# Altium schematic symbol library CeleronLib.SchLib: 64 symbols (part 1 of 2)
Pins are listed as number, name and electrical type; pins without a type are passive.

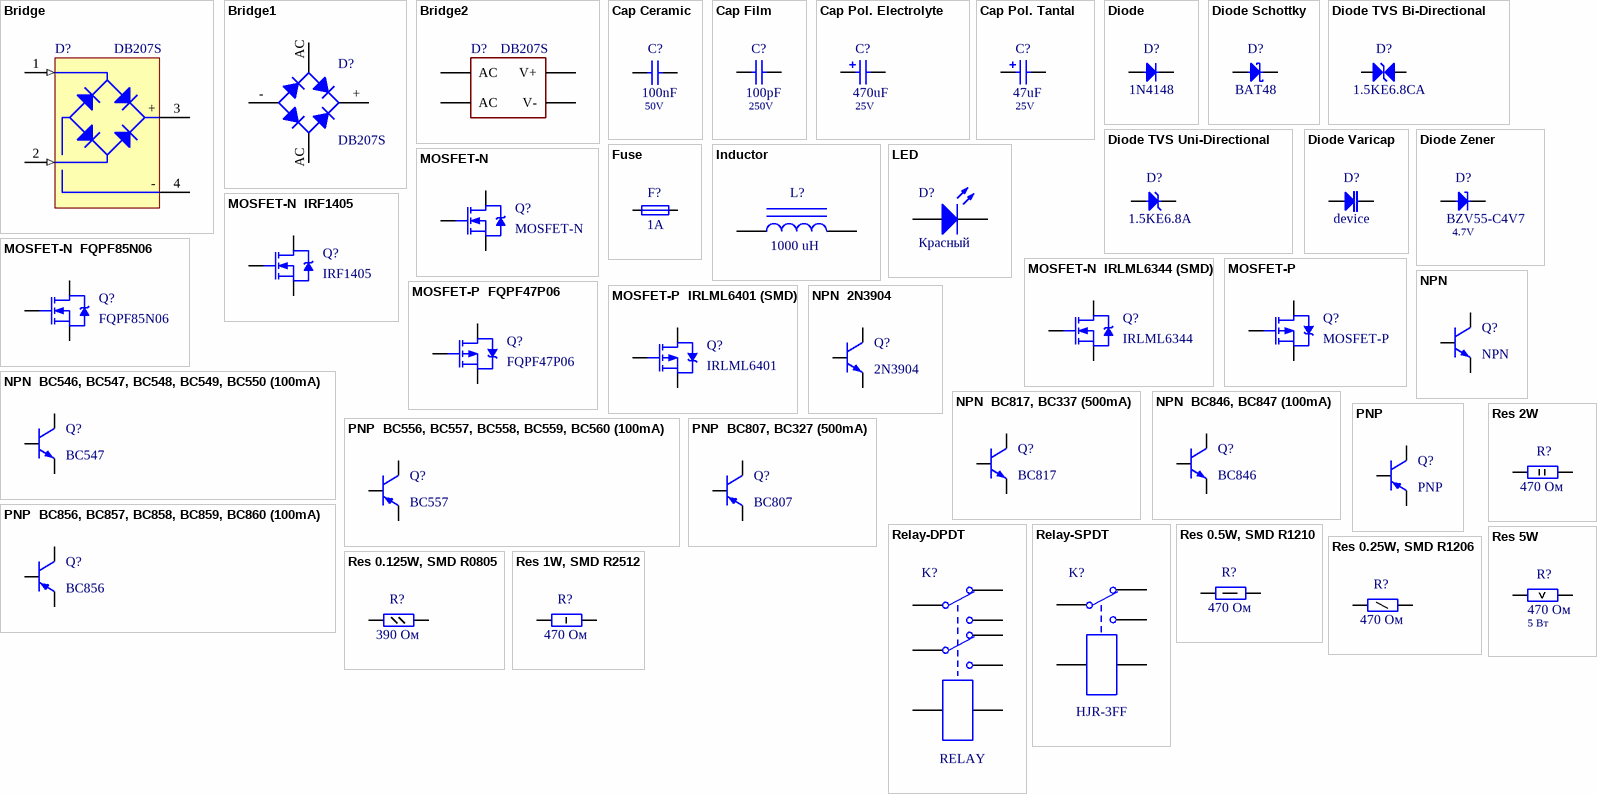
[diagram p0: symbols Bridge to Res 5W]

## Bridge
designator D?, comment Device: DB207S  (hidden comment: Диодный мост DB207S (2А, 1000V))
Bridge Rectifier 1+ 2AC 3- 4AC; ComponentLink2Description: Datasheet; ComponentLink1Description: Сайт производителя; Family: Диодный мост; Package: DIP4 (шаг 5.2мм); Current: 2А; Voltage: 1000V; ComponentLink3Description: Где купить?
footprint BRIDGE D-37 (SIP; 4 Leads; Body 15 x 17.5 x 6.8 mm (typ); Pitch 5.1 mm); pin to pad 1>2 2>4 3>1 4>3
footprint BRIDGE D-38 (Bridge Rectifier; 4 Terminals; Body 9.4 x 9.4 mm (typ); Pitch 5.08 mm); pin to pad 1>2 2>4 3>1 4>3
footprint BRIDGE D-44 (SIP; 4 Leads; Body 15 x 17.5 x 6.8 mm (typ); Pitch 3.8 mm); pin to pad 1>2 2>3 3>1
footprint BRIDGE D-46_3A (Bridge Rectifier; 4 Terminals; Body 16.8 x 16.8 mm (typ); Pitch 10.67 mm); pin to pad 1>2 2>4 3>1 4>3
footprint BRIDGE D-46_6A (Bridge Rectifier; 4 Terminals; Body 16.8 x 16.8 mm (typ); Pitch 10.67 mm); pin to pad 1>2 2>4 3>1 4>3
footprint BRIDGE DB-1 (Диодный мост, Diode Bridge 1A, 1000V)
footprint BRIDGE DB-1/S (Диодный мост, Diode Bridge 1A, 1000V)
footprint BRIDGE DB-1S (Диодный мост, Diode Bridge 1A, 1000V, SMD)
footprint BRIDGE KBL (KBL10  6,5mm x 19,5mm,  4A, 1000V)
footprint BRIDGE KBPC (KBPC3510W  28,4mm x 28,4mm)
simulation model BRIDGE (Spice Subcircuit)
pins: 1 AC (in), 2 AC (in), 3 + (power), 4 - (power)

## Bridge1
designator D?, comment Device: DB207S  (hidden comment: Диодный мост DB207S (2А, 1000V))
Full Wave Diode Bridge; Package: D-38; ComponentLink2Description: Datasheet; ComponentLink1Description: Сайт производителя; Family: Диодный мост; Current: 2А; Voltage: 1000V; ComponentLink3Description: Где купить?
simulation model BRIDGE (Spice Subcircuit)
footprint BRIDGE D-37 (SIP; 4 Leads; Body 15 x 17.5 x 6.8 mm (typ); Pitch 5.1 mm); pin to pad +>1 ->3 AC>2
footprint BRIDGE D-38 (Bridge Rectifier; 4 Terminals; Body 9.4 x 9.4 mm (typ); Pitch 5.08 mm); pin to pad +>1 ->3 AC>2
footprint BRIDGE D-44 (SIP; 4 Leads; Body 15 x 17.5 x 6.8 mm (typ); Pitch 3.8 mm); pin to pad +>1 AC>2
footprint BRIDGE D-46_3A (Bridge Rectifier; 4 Terminals; Body 16.8 x 16.8 mm (typ); Pitch 10.67 mm); pin to pad +>1 ->3 AC>2
footprint BRIDGE D-46_6A (Bridge Rectifier; 4 Terminals; Body 16.8 x 16.8 mm (typ); Pitch 10.67 mm); pin to pad +>1 ->3 AC>2
footprint BRIDGE DB-1 (Диодный мост, Diode Bridge 1A, 1000V)
footprint BRIDGE DB-1/S (Диодный мост, Diode Bridge 1A, 1000V)
footprint BRIDGE DB-1S (Диодный мост, Diode Bridge 1A, 1000V, SMD)
footprint BRIDGE KBL (KBL10  6,5mm x 19,5mm,  4A, 1000V)
footprint BRIDGE KBPC (KBPC3510W  28,4mm x 28,4mm)
pins: + 3, - 4, AC 1, AC 2

## Bridge2
designator D?, comment Device: DB207S  (hidden comment: Диодный мост DB207S (2А, 1000V))
Diode Bridge; Package: D-46_6A; ComponentLink2Description: Datasheet; ComponentLink1Description: Сайт производителя; Family: Диодный мост; Current: 2А; Voltage: 1000V; ComponentLink3Description: Где купить?
simulation model BRIDGE (Spice Subcircuit)
footprint BRIDGE D-37 (SIP; 4 Leads; Body 15 x 17.5 x 6.8 mm (typ); Pitch 5.1 mm); pin to pad 1>2 2>4 3>1 4>3
footprint BRIDGE D-38 (Bridge Rectifier; 4 Terminals; Body 9.4 x 9.4 mm (typ); Pitch 5.08 mm); pin to pad 1>2 2>4 3>1 4>3
footprint BRIDGE D-44 (SIP; 4 Leads; Body 15 x 17.5 x 6.8 mm (typ); Pitch 3.8 mm); pin to pad 1>2 2>3 3>1
footprint BRIDGE D-46_3A (Bridge Rectifier; 4 Terminals; Body 16.8 x 16.8 mm (typ); Pitch 10.67 mm); pin to pad 1>2 2>4 3>1 4>3
footprint BRIDGE D-46_6A (Bridge Rectifier; 4 Terminals; Body 16.8 x 16.8 mm (typ); Pitch 10.67 mm); pin to pad 1>2 2>4 3>1 4>3
footprint BRIDGE DB-1 (Диодный мост, Diode Bridge 1A, 1000V)
footprint BRIDGE DB-1/S (Диодный мост, Diode Bridge 1A, 1000V)
footprint BRIDGE DB-1S (Диодный мост, Diode Bridge 1A, 1000V, SMD)
footprint BRIDGE KBL (KBL10  6,5mm x 19,5mm,  4A, 1000V)
footprint BRIDGE KBPC (KBPC3510W  28,4mm x 28,4mm)
pins: 1 AC, 2 AC, 3 V+, 4 V-

## Cap Ceramic
designator C?, comment value 100nF  Voltage: 50V  (hidden comment: Конденсатор керамический  100nF  50V)
Capacitor (керамический); Tolerance: ±10%; Package: C1206; ComponentLink2Description: Datasheet; ComponentLink1Description: Сайт производителя; Family: Конденсатор керамический; ComponentLink3Description: Где купить?
simulation model CAP (Semiconductor Capacitor)
signal-integrity model Cap Semi
footprint Cap SMD C0805 (Chip Capacitor; Body 2.0 x 1.2 mm (LxW typ))
footprint Cap SMD C0805 - wa (Chip Capacitor; Body 2.0 x 1.2 mm (LxW typ))
footprint Cap SMD C1206 (Chip Capacitor; Body 3.2 x 1.6 mm (LxW typ))
footprint Cap SMD C1206 - wa (Chip Capacitor; Body 3.2 x 1.6 mm (LxW typ))
footprint Cap CC4 P=5mm (Конденсатор керамический многослойный низковольтный (50V) выводной, типа CC4/CT4...)
footprint Cap SMD C1210_M (Chip Capacitor, Body 3.2x2.5mm, IPC Low Density)
pins: 1, 2

## Cap Film
designator C?, comment value 100pF  Voltage: 250V  (hidden comment: Конденсатор плёночный  100pF  250V)
Capacitor (плёночный); Tolerance: ±10%; ComponentLink2Description: Datasheet; ComponentLink1Description: Сайт производителя; Family: Конденсатор плёночный; ComponentLink3Description: Где купить?
simulation model CAP (Semiconductor Capacitor)
signal-integrity model Cap Semi
footprint Cap X2 P=10mm (FCAP 0.01u/275VAC PP X2 L = 13 mm, S = 5 mm, H = 11 mm P = 10 mm, d = 0.6 mm)
footprint Cap CBB21 P=10mm (Конденсатор плёночный, типа CBB21...)
footprint Cap CBB21 P=15mm (Конденсатор плёночный, типа CBB21...)
footprint Cap CBB21 P=20mm (Конденсатор плёночный, типа CBB21...)
footprint Cap CBB21 P=22.5mm (Конденсатор плёночный, типа CBB21...)
footprint Cap CBB21 P=30mm (Конденсатор плёночный, типа CBB21...)
footprint Cap CBB21 P=27.5mm (Конденсатор плёночный, типа CBB21...)
pins: 1, 2

## Cap Pol. Electrolyte
designator C?, comment value 470uF  Voltage: 25V  (hidden comment: Конденсатор электролитический  470uF  25V)
Polarized Capacitor (электролитический); Tolerance: ±10%; Package: RB7.6-15 (Radial); ComponentLink2Description: Datasheet; ComponentLink1Description: Сайт производителя; Family: Конденсатор электролитический; ComponentLink3Description: Где купить?
simulation model CAP (Capacitor)
signal-integrity model Cap Pol
footprint Cap El 5x11 (Между выводами 2 мм, d =0.5)
footprint Cap El 6.3x11 (Между выводами 2.5 мм, d =0.5)
footprint Cap El 8x12 (Между выводами 3.5 мм, d =0.6)
footprint Cap El 10x21 (Между выводами 5 мм, d =0.6)
footprint Cap El 10.2x17.5 (D=10.2 d=0.6 S=5.0 h=17.5)
footprint Cap El 10.2x17.5 - Horizont (D=10.2 d=0.6 S=5.0 h=11)
footprint Cap El 13x21 (Между выводами 5 мм, d =0.6)
footprint Cap El 16x26 (Между выводами 7.5 мм, d =0.8)
footprint Cap El 18x31 (Между выводами 7.5 мм, d =0.8)
footprint Cap El 20x42 (Между выводами 10.5 мм, d =0.8)
footprint Cap El 22x42 (Между выводами 10.5 мм, d =0.8)
footprint Cap El 25x50 (Между выводами 12.5 мм, d =1.0)
footprint Cap SMD El 1030X1020N (Capacitor, Aluminium Electrolytric, 10.3mm L X 10.3mm W X 10.2mm H, IPC Medium Density)
footprint Cap SMD El 530X540N (Capacitor, Aluminium Electrolytric, 5.3mm L X 5.3mm W X 5.4mm H, IPC Medium Density)
footprint Cap SMD El 430X540N (Capacitor, Aluminium Electrolytric, 4.3mm L X 4.3mm W X 5.4mm H, IPC Medium Density)
footprint Cap SMD El 660X540N (Capacitor, Aluminium Electrolytric, 6.6mm L X 6.6mm W X 5.4mm H, IPC Medium Density)
footprint Cap SMD El 830X620N (Capacitor, Aluminium Electrolytric, 8.3mm L X 8.3mm W X 6.2mm H, IPC Medium Density)
footprint Cap SMD El 830X1020N (Capacitor, Aluminium Electrolytric, 8.3mm L X 8.3mm W X 10.2mm H, IPC Medium Density)
pins: 1, 2
1 alternate drawing of the same symbol

## Cap Pol. Tantal
designator C?, comment value 47uF  Voltage: 25V  (hidden comment: Конденсатор танталовый  47uF  25V)
Polarized Capacitor (танталовый); Tolerance: ±10%; Package: Type D (SMD); ComponentLink2Description: Datasheet; ComponentLink1Description: Сайт производителя; Family: Конденсатор танталовый; ComponentLink3Description: Где купить?
simulation model CAP (Capacitor)
signal-integrity model Cap Pol
footprint Cap Tantal 3216 - Type A (Capacitor, SM Tantalum; Body 3.2 x 1.6 mm (LxW typ))
footprint Cap Tantal 3216 - Type A - wa (Capacitor, SM Tantalum; Body 3.2 x 1.6 mm (LxW typ))
footprint Cap Tantal 3528 - Type B (Capacitor, SM Tantalum; Body 3.5 x 2.8 mm (LxW typ))
footprint Cap Tantal 3528 - Type B - WA (Capacitor, SM Tantalum; Body 3.5 x 2.8 mm (LxW typ))
footprint Cap Tantal 6032 - Type C (Capacitor, SM Tantalum; Body 6.0 x 3.2 mm (LxW typ))
footprint Cap Tantal 7260 - Type E (Capacitor, SM Tantalum; Body 7.3 x 6.0 mm (LxW typ))
footprint Cap Tantal 7343 - Type D (Capacitor, SM Tantalum; Body 7.3 x 4.3 mm (LxW typ))
pins: 1, 2
1 alternate drawing of the same symbol

## Diode
designator D?, comment Device: 1N4148  (hidden comment: Диод выпрямительный  1N4148 (150mA 75V)  DO-35)
Diode; ComponentLink2Description: Datasheet; ComponentLink1Description: Сайт производителя; Family: Диод выпрямительный; Package: DO-35; Voltage: 75V; Current: 150mA; ComponentLink3Description: Где купить?
footprint SOD-123FL (Small Outline Diode Flat Lead (SOD-123FL), Body; 2.70mm L X 1.65mm W X 1.0mm H)
footprint DO-35 (Diode, Axial, Body 4.6 x 2 mm (LxDia. max), Pin spacing 7.62mm)
footprint DO-15 - vertikal - wa (Диод импульсный 2 A, 1000 V. TECHNICAL SPECIFICATIONS OF FAST RECOVERY RECTIFIER)
footprint DO-15 - wa (Диод импульсный 2 A, 1000 V. TECHNICAL SPECIFICATIONS OF FAST RECOVERY RECTIFIER)
footprint DO-27 (Diode, Axial; Body 9.5 x 5.6 mm (LxDia. max), Lead Dia. 1.32 mm (max))
footprint DO-27 - VERTIKAL (Diode, Axial; Body 9.5 x 5.6 mm (LxDia. max), Lead Dia. 1.32 mm (max))
footprint DO-41 (Diode, Axial; Body 5.2 x 2.7 mm (LxDia. max), Lead Dia. 0.86 mm (max))
footprint DO-41 - Big (Diode, Axial; Body 5.2 x 2.7 mm (LxDia. max), Lead Dia. 0.86 mm (max))
footprint DO-201AD - VERTIKAL (Diode, Axial; Body 9.5 x 5.6 mm (LxDia. max), Lead Dia. 1.32 mm (max))
footprint DO-201AD - wa (Diode, Axial; Body 9.5 x 5.6 mm (LxDia. max), Lead Dia. 1.32 mm (max))
footprint SOD-323 (SOD-323/SC-76; 2 Leads; Body 1.7 x 1.3 mm, (LxW))
footprint MELF, DО213AB, MLL41 (Metal Electrode Face (MELF) Diode; Body 5 x 2.5 mm (LxDia))
footprint MiniMELF, QuadroMELF, SOD-80, DО213AA, MLL34 (Размеры корпуса:  3.7 x 1.6 x 1.6 мм (146 x 63 x 63 mil))
footprint SMA, DO-214AC (DO-214-AC/SMA; 2 C-Bend Leads; Body 5 x 2.7 mm, inc. leads (LxW))
footprint SMB, DO-214AA (DO-214-AA/SMB; 2 C-Bend Leads; Body 5.3 x 3.6 mm, inc. leads (LxW))
footprint SMC, DO-214AB (DO-214-AB/SMC; 2 C-Bend Leads; Body 7.9 x 5.9 mm, inc. leads (LxW))
pins: 1 C, 2 A

## Diode Schottky
designator D?, comment Device: BAT48  (hidden comment: Диод Шоттки  BAT48 (350mA 40V)  SOT-23)
Schottky Diode; ComponentLink2Description: Datasheet; ComponentLink1Description: Сайт производителя; Family: Диод Шоттки; Package: SOT-23; Voltage: 40V; Current: 350mA; ComponentLink3Description: Где купить?
footprint DO-35 (Diode, Axial, Body 4.6 x 2 mm (LxDia. max), Pin spacing 7.62mm)
footprint DO-41 (Diode, Axial; Body 5.2 x 2.7 mm (LxDia. max), Lead Dia. 0.86 mm (max))
footprint DO-41 - Big (Diode, Axial; Body 5.2 x 2.7 mm (LxDia. max), Lead Dia. 0.86 mm (max))
footprint SMA, DO-214AC (DO-214-AC/SMA; 2 C-Bend Leads; Body 5 x 2.7 mm, inc. leads (LxW))
footprint SMB, DO-214AA (DO-214-AA/SMB; 2 C-Bend Leads; Body 5.3 x 3.6 mm, inc. leads (LxW))
footprint SMC, DO-214AB (DO-214-AB/SMC; 2 C-Bend Leads; Body 7.9 x 5.9 mm, inc. leads (LxW))
footprint DO-201AD - VERTIKAL (Diode, Axial; Body 9.5 x 5.6 mm (LxDia. max), Lead Dia. 1.32 mm (max))
footprint DO-201AD - wa (Diode, Axial; Body 9.5 x 5.6 mm (LxDia. max), Lead Dia. 1.32 mm (max))
pins: 1 C, 2 A

## Diode TVS Bi-Directional
designator D?, comment Device: 1.5KE6.8CA  (hidden comment: Супрессор двунаправленный  1.5KE6.8CA (1,5 кВт)  DO-201)
Transient Voltage Suppressor Diode (Bi-Directional); Power: 1,5 кВт; Voltage: 6,45 .. 7,14 V; ComponentLink2Description: Datasheet; ComponentLink2URL: http://www.vishay.com/docs/88301/15ke.pdf; ComponentLink1Description: Сайт производителя; ComponentLink1URL: http://www.vishay.com/product?docid=88301; Family: Супрессор двунаправленный; Package: DO-201; ComponentLink3Description: Где купить?
footprint SMA, DO-214AC (DO-214-AC/SMA; 2 C-Bend Leads; Body 5 x 2.7 mm, inc. leads (LxW))
footprint SMB, DO-214AA (DO-214-AA/SMB; 2 C-Bend Leads; Body 5.3 x 3.6 mm, inc. leads (LxW))
footprint SMC, DO-214AB (DO-214-AB/SMC; 2 C-Bend Leads; Body 7.9 x 5.9 mm, inc. leads (LxW))
footprint DO-15 - vertikal - wa (Диод импульсный 2 A, 1000 V. TECHNICAL SPECIFICATIONS OF FAST RECOVERY RECTIFIER)
footprint DO-15 - wa (Диод импульсный 2 A, 1000 V. TECHNICAL SPECIFICATIONS OF FAST RECOVERY RECTIFIER)
footprint DO-201AD - VERTIKAL (Diode, Axial; Body 9.5 x 5.6 mm (LxDia. max), Lead Dia. 1.32 mm (max))
footprint DO-201AD - wa (Diode, Axial; Body 9.5 x 5.6 mm (LxDia. max), Lead Dia. 1.32 mm (max))
pins: 1 C, 2 A

## Diode TVS Uni-Directional
designator D?, comment Device: 1.5KE6.8A  (hidden comment: Супрессор однонаправленный  1.5KE6.8A (1,5 кВт)  DO-201)
Transient Voltage Suppressor Diode (Uni-Directional); Power: 1,5 кВт; Voltage: 6,45 .. 7,14 V; ComponentLink2Description: Datasheet; ComponentLink2URL: http://www.vishay.com/docs/88301/15ke.pdf; ComponentLink1Description: Сайт производителя; ComponentLink1URL: http://www.vishay.com/product?docid=88301; Family: Супрессор однонаправленный; Package: DO-201; ComponentLink3Description: Где купить?
footprint SMA, DO-214AC (DO-214-AC/SMA; 2 C-Bend Leads; Body 5 x 2.7 mm, inc. leads (LxW))
footprint SMB, DO-214AA (DO-214-AA/SMB; 2 C-Bend Leads; Body 5.3 x 3.6 mm, inc. leads (LxW))
footprint SMC, DO-214AB (DO-214-AB/SMC; 2 C-Bend Leads; Body 7.9 x 5.9 mm, inc. leads (LxW))
footprint DO-15 - vertikal - wa (Диод импульсный 2 A, 1000 V. TECHNICAL SPECIFICATIONS OF FAST RECOVERY RECTIFIER)
footprint DO-15 - wa (Диод импульсный 2 A, 1000 V. TECHNICAL SPECIFICATIONS OF FAST RECOVERY RECTIFIER)
footprint DO-201AD - VERTIKAL (Diode, Axial; Body 9.5 x 5.6 mm (LxDia. max), Lead Dia. 1.32 mm (max))
footprint DO-201AD - wa (Diode, Axial; Body 9.5 x 5.6 mm (LxDia. max), Lead Dia. 1.32 mm (max))
pins: 1 C, 2 A

## Diode Varicap
designator D?, comment Варикап  device ( )  (value not drawn)
Diode Varicap  Anode Pin 1 Cathode Pin 3 (Pas de pin 2); ComponentLink2Description: Datasheet; ComponentLink1Description: Сайт производителя; Family: Варикап; ComponentLink3Description: Где купить?; Device: device
pins: 1 C, 2 A

## Diode Zener
designator D?, comment Voltage: 4.7V  Device: BZV55-C4V7  (hidden comment: Стабилитрон  BZV55-C4V7 (4.7V 250mA 0.5 Вт)  SOD80C)
Zener Diode; Power: 0.5 Вт; ComponentLink2Description: Datasheet; ComponentLink1Description: Сайт производителя; Family: Стабилитрон; Package: SOD80C; Current: 250mA; ComponentLink3Description: Где купить?
footprint DO-35 (Diode, Axial, Body 4.6 x 2 mm (LxDia. max), Pin spacing 7.62mm)
footprint DO-41 (Diode, Axial; Body 5.2 x 2.7 mm (LxDia. max), Lead Dia. 0.86 mm (max))
footprint DO-41 - Big (Diode, Axial; Body 5.2 x 2.7 mm (LxDia. max), Lead Dia. 0.86 mm (max))
footprint MiniMELF, QuadroMELF, SOD-80, DО213AA, MLL34 (Размеры корпуса:  3.7 x 1.6 x 1.6 мм (146 x 63 x 63 mil))
pins: 1 C, 2 A

## Fuse
designator F?, comment Current: 1A  (hidden comment: Предохранитель 5x20  1A)
Fuse; Voltage: 240VAC; ComponentLink2Description: Datasheet; ComponentLink1Description: Сайт производителя; Package: 5x20; Family: Предохранитель; ComponentLink3Description: Где купить?
footprint Fuse SMD 1206 (Chip Fuse Body 3.1 x 1.6 mm (LxW typ))
footprint Fuse H520PT_22mm (Держатель предохранителя 5x20 mm - по одному контакту с каждой стороны, с интервалом 22mm (или "предохранитель с выводами" без держателя))
footprint Fuse H520PT_2 (Держатель предохранителя 5x20 mm - по два контакта с каждой стороны, интервал внешних 22мм, интервал внутренних 10мм (или пара "одиночных скоб на плату"))
footprint Fuse JK30-200 (2A) (Самовосстанавливающийся предохранитель 2A)
footprint Fuse JK30-400 (4A) (Самовосстанавливающийся предохранитель 4A)
footprint Fuse FS-11 6х30 (Держатель предохранителя одиночный FS-11 6х30 mm)
footprint Fuse H520PT_15mm (Держатель предохранителя 5x20 mm - по одному контакту с каждой стороны, с интервалом 15mm (закрытый))
pins: 1, 2

## Inductor
designator L?, comment value 1000 uH  (hidden comment: Дроссель EC24 - 102K 1000 uH (60 mA, 30 Ohm))
Индуктивность (Air filled Inductor, Magnetic-Core Inductor, Iron-Core Inductor); Tolerance: ±10%; Current: 60 mA; Resistance: 30 Ohm; ComponentLink2Description: Datasheet; ComponentLink2URL: http://213.189.211.128/pdf/datasheets/yageo/SQC.pdf; ComponentLink1Description: Сайт производителя; ComponentLink1URL: http://www.yageo.com; Family: Дроссель; Package: Аксиальный; Device: EC24 - 102K; ComponentLink3Description: Где купить?
footprint INDUCTOR EC24 - w_10 (Индуктивность, L=10mm)
footprint INDUCTOR EC24 - w_13 (Индуктивность, L=13mm)
footprint INDUCTOR EC24 - w_16 (Индуктивность, L=16mm)
footprint INDUCTOR EC24 - w_20 (Индуктивность, L=20mm)
footprint INDUCTOR EC24 - w_22 (Индуктивность, L=22mm)
footprint INDUCTOR EC24 - w_24 (Индуктивность, L=24mm)
footprint INDUCTOR SMD 1206 Ferrite Bead 1.5-2A (Chip Ferrite Bead (1206 Size) 1.5-2A)
footprint INDUCTOR SMD 1210 chip inductors 40-445 mA (Chip Ferrite Bead (1206 Size) 1.5-2A)
footprint INDUCTOR SMD 1812 chip inductors 90-1000 mA (Chip SMD INDUCTOR/BEADS (1812 Size) 90-1000 mA)
footprint INDUCTOR SMD CDRH127 (Индуктивность, Sumida  (12.3 x 12.3 x 12mm))
footprint INDUCTOR SMD CTCDRH73 (Индуктивность, CTCDRH73 Type, ctparts.com)
footprint INDUCTOR SMD SLF7045T (Индуктивность, SLF7045 Type, TDK)
footprint INDUCTOR SMD 2220 chip Murata (Chip Capacitor, Inductor Murata; Body 5.7 x 5.0 mm (LxW typ))
footprint Inductor comp (Индуктивность компьютерная. D=20mm, h=9mm, шаг=8мм, d=1.3mm)
footprint Inductor M1000HM (Индуктивность. D=20mm, h=22mm, шаг=8мм, d=1.4mm)
footprint Inductor Radial D=10mm (D=10mm, shag=2.5mm)
footprint INDUCTOR SMD CDRH125 (Индуктивность, Sumida  (12.3 x 12.3 x 6mm))
footprint INDUCTOR SMD CD32 (SMD Inductor  Body Width 3.5mm Body Lenght 3mm Height 2.1mm)
pins: 1, 2
1 alternate drawing of the same symbol

## LED
designator D?, comment value Красный  (hidden comment: Светодиод  выводной 5mm  Красный)
Typical LED; Voltage: 3V; Current: 20mA; ComponentLink2Description: Datasheet; ComponentLink1Description: Сайт производителя; Family: Светодиод; Package: выводной 5mm; ComponentLink3Description: Где купить?
simulation model LED1 (Diode)
footprint LED_3MM_GREEN_1C-2A (LED, Green, Body Dia. 3.43 mm, Pin spacing 2.54mm)
footprint LED_3MM_RED_1C-2A (LED, Red, Body Dia. 3.43 mm, Pin spacing 2.54mm)
footprint LED_3MM_YELLOW_1C-2A (LED, Red, Body Dia. 3.43 mm, Pin spacing 2.54mm)
footprint LED_5MM_GREEN_1C-2A (LED, Green, Body Dia. 5.08mm, Pin spacing 2.54mm)
footprint LED_5MM_RED_1C-2A (LED, Red, Body Dia. 5.08mm, Pin spacing 2.54mm)
footprint LED_5MM_YELLOW_1C-2A (LED, Yellow, Body Dia. 5.08mm, Pin spacing 2.54mm)
footprint LED SMD 1206 Green (Green Chip LED, 2-Leads, Body 3.2 x1.6mm, IPC Medium Density)
footprint LED SMD 1206 Red (Red Chip LED, 2-Leads, Body 3.2 x1.6mm, IPC Medium Density)
footprint LED SMD 1206 Yellow (Yellow Chip LED, 2-Leads, Body 3.2 x1.6mm, IPC Medium Density)
footprint HU,WH-2 - WA (Connector; Header; 2 Position)
pins: 1 C, 2 A

## MOSFET-N
designator Q?, comment Device: MOSFET-N  (hidden comment: Транзистор NMOS  MOSFET-N (, ))
HEXFET Power MOSFET (N-Channel); ComponentLink2Description: Datasheet; ComponentLink1Description: Сайт производителя; Family: Транзистор NMOS; ComponentLink3Description: Где купить?
footprint SOT23_N (SOT23, 3-Leads, Body 2.9x1.3mm, Pitch 0.95mm, Lead Span 2.3mm, IPC Medium Density)
footprint SOT23_L (SOT23, 3-Leads, Body 2.9x1.3mm, Pitch 0.95mm, Lead Span 2.3mm, IPC High Density)
footprint SOT23_M (SOT23, 3-Leads, Body 2.9x1.3mm, Pitch 0.95mm, Lead Span 2.3mm, IPC Low Density)
footprint TO-220-v (TO-220 3-Terminal - Vertical Mount); pin to pad 2>3 3>2
footprint DPAK, TO-252-3L (DPAK TO-252, 2.28mm pitch; 2 pin, 9.7mm L X 6.7mm W X 2.40mm H body)
simulation model NMOS (Default N-Channel MOSFET)
pins: 1 G, 2 S, 3 D

## MOSFET-N  FQPF85N06
designator Q?, comment Device: FQPF85N06  (hidden comment: Транзистор NMOS  FQPF85N06 (60V, 53A)  TO-220F)
HEXFET Power MOSFET (N-channel, 60V, 53A, 10mOhms @ VGS=10V, изолированный корпус TO220F); Package: TO-220F; ComponentLink2Description: Datasheet; ComponentLink2URL: https://www.fairchildsemi.com/datasheets/FQ/FQPF85N06.pdf; ComponentLink1Description: Сайт производителя; ComponentLink1URL: https://www.fairchildsemi.com/; Family: Транзистор NMOS; Current: 53A; Voltage: 60V; ComponentLink3Description: Где купить?
footprint TO-220-v (TO-220 3-Terminal - Vertical Mount); pin to pad 2>3 3>2
simulation model NMOS (Default N-Channel MOSFET)
pins: 1 G, 2 S, 3 D

## MOSFET-N  IRF1405
designator Q?, comment Device: IRF1405  (hidden comment: Транзистор NMOS  IRF1405 (55V, 169A)  TO-220AB)
HEXFET Power MOSFET (N-channel, 169A, 55V, 5.3мОм, корпус TO-220AB); Package: TO-220AB; ComponentLink2Description: Datasheet; ComponentLink2URL: http://www.irf.com/product-info/datasheets/data/irf1405.pdf; ComponentLink1Description: Сайт производителя; ComponentLink1URL: http://www.irf.com/; Family: Транзистор NMOS; Current: 169A; Voltage: 55V; ComponentLink3Description: Где купить?
footprint TO-220-v (TO-220 3-Terminal - Vertical Mount); pin to pad 2>3 3>2
simulation model NMOS (Default N-Channel MOSFET)
pins: 1 G, 2 S, 3 D

## MOSFET-N  IRLML6344 (SMD)
designator Q?, comment Device: IRLML6344  (hidden comment: Транзистор NMOS  IRLML6344 (30V, 5A)  SOT-23 (SMD))
HEXFET Power MOSFET (N-Channel, Vds=30V, Id=5A, Rds=37mOhms @ Vgs=4.5V, Logic level); ComponentLink2Description: Datasheet; ComponentLink2URL: http://www.infineon.com/dgdl/irlml6344pbf.pdf?fileId=5546d462533600a4015356689c44262c; ComponentLink1Description: Сайт производителя; ComponentLink1URL: http://www.irf.com/; Package: SOT-23 (SMD); Family: Транзистор NMOS; Current: 5A; Voltage: 30V; ComponentLink3Description: Где купить?
footprint SOT23_N (SOT23, 3-Leads, Body 2.9x1.3mm, Pitch 0.95mm, Lead Span 2.3mm, IPC Medium Density)
footprint SOT23_L (SOT23, 3-Leads, Body 2.9x1.3mm, Pitch 0.95mm, Lead Span 2.3mm, IPC High Density)
footprint SOT23_M (SOT23, 3-Leads, Body 2.9x1.3mm, Pitch 0.95mm, Lead Span 2.3mm, IPC Low Density)
simulation model NMOS (Default N-Channel MOSFET)
pins: 1 G, 2 S, 3 D

## MOSFET-P
designator Q?, comment Device: MOSFET-P  (hidden comment: Транзистор PMOS  MOSFET-P (, ))
HEXFET Power MOSFET (P-Channel); ComponentLink2Description: Datasheet; ComponentLink1Description: Сайт производителя; Family: Транзистор PMOS; ComponentLink3Description: Где купить?
footprint SOT23_N (SOT23, 3-Leads, Body 2.9x1.3mm, Pitch 0.95mm, Lead Span 2.3mm, IPC Medium Density)
footprint SOT23_L (SOT23, 3-Leads, Body 2.9x1.3mm, Pitch 0.95mm, Lead Span 2.3mm, IPC High Density)
footprint SOT23_M (SOT23, 3-Leads, Body 2.9x1.3mm, Pitch 0.95mm, Lead Span 2.3mm, IPC Low Density)
footprint DPAK, TO-252-3L (DPAK TO-252, 2.28mm pitch; 2 pin, 9.7mm L X 6.7mm W X 2.40mm H body)
footprint TO-220-v (TO-220 3-Terminal - Vertical Mount); pin to pad 2>3 3>2
simulation model PMOS (Default P-Channel MOSFET)
pins: 1 G, 2 S, 3 D

## MOSFET-P  FQPF47P06
designator Q?, comment Device: FQPF47P06  (hidden comment: Транзистор PMOS  FQPF47P06 (60V, 30A)  TO-220F)
HEXFET Power MOSFET (P-Channel, 60V 30A, 26mOhms @ VGS=-10V, изолированный корпус TO220F); ComponentLink2Description: Datasheet; ComponentLink2URL: https://www.fairchildsemi.com/datasheets/FQ/FQPF47P06.pdf; ComponentLink1Description: Сайт производителя; ComponentLink1URL: https://www.fairchildsemi.com/; Package: TO-220F; Family: Транзистор PMOS; Current: 30A; Voltage: 60V; ComponentLink3Description: Где купить?
footprint TO-220-v (TO-220 3-Terminal - Vertical Mount); pin to pad 2>3 3>2
simulation model PMOS (Default P-Channel MOSFET)
pins: 1 G, 2 S, 3 D

## MOSFET-P  IRLML6401 (SMD)
designator Q?, comment Device: IRLML6401  (hidden comment: Транзистор PMOS  IRLML6401 (12V, 4.3A)  SOT-23 (SMD))
HEXFET Power MOSFET (P-Channel, Vds=12V, Id=4.3A, Rds=50mOhms @ Vgs=4.5V, Logic level); ComponentLink2Description: Datasheet; ComponentLink2URL: http://www.irf.com/product-info/datasheets/data/IRLML6401.pdf; ComponentLink1Description: Сайт производителя; ComponentLink1URL: http://www.irf.com/; Package: SOT-23 (SMD); Family: Транзистор PMOS; Current: 4.3A; Voltage: 12V; ComponentLink3Description: Где купить?
footprint SOT23_N (SOT23, 3-Leads, Body 2.9x1.3mm, Pitch 0.95mm, Lead Span 2.3mm, IPC Medium Density)
footprint SOT23_L (SOT23, 3-Leads, Body 2.9x1.3mm, Pitch 0.95mm, Lead Span 2.3mm, IPC High Density)
footprint SOT23_M (SOT23, 3-Leads, Body 2.9x1.3mm, Pitch 0.95mm, Lead Span 2.3mm, IPC Low Density)
simulation model PMOS (Default P-Channel MOSFET)
pins: 1 G, 2 S, 3 D

## NPN
designator Q?, comment Device: NPN  (hidden comment: Транзистор NPN  NPN (, ))
NPN General Purpose Amplifier; ComponentLink2Description: Datasheet; ComponentLink1Description: Сайт производителя; Family: Транзистор NPN; ComponentLink3Description: Где купить?
footprint TO-92AA-P127 (TO-92 (TO-226),  Pitch 1.27mm, Flat Index, 3 In-Line, Axial Leads, Body Dia. 5.3mm, Leads Dia. 0.5mm (max)); pin to pad 1>2 2>1
footprint TO-92AA-P254 (TO-92 (TO226), Pitch 2.54mm, Flat Index, 3 In-Line, Bent Leads, Body Dia. 5.3mm); pin to pad 1>2 2>1
footprint SOT23_L (SOT23, 3-Leads, Body 2.9x1.3mm, Pitch 0.95mm, Lead Span 2.3mm, IPC High Density); pin to pad 2>3 3>2
footprint SOT23_N (SOT23, 3-Leads, Body 2.9x1.3mm, Pitch 0.95mm, Lead Span 2.3mm, IPC Medium Density); pin to pad 2>3 3>2
footprint TO-92AA-P152 (TO-92 (TO-226),  Pitch 1.524mm, Flat Index, 3 In-Line, Axial Leads, Body Dia. 5.3mm, Leads Dia. 0.5mm (max)); pin to pad 1>2 2>1
simulation model NPN (Default NPN BJT)
footprint SOT23_M (SOT23, 3-Leads, Body 2.9x1.3mm, Pitch 0.95mm, Lead Span 2.3mm, IPC Low Density); pin to pad 2>3 3>2
pins: 1 B, 2 C, 3 E

## NPN  2N3904
designator Q?, comment Device: 2N3904  (hidden comment: Транзистор NPN  2N3904 (40V, 200mA)  TO-92)
NPN General Purpose Amplifier (200mA, 40V, 100MHz); ComponentLink2Description: Datasheet; ComponentLink2URL: https://www.fairchildsemi.com/datasheets/2N/2N3904.pdf; ComponentLink1Description: Сайт производителя; ComponentLink1URL: http://www.fairchildsemi.com/; Package: TO-92; Family: Транзистор NPN; Current: 200mA; Voltage: 40V; ComponentLink3Description: Где купить?
footprint TO-92AA-P127 (TO-92 (TO-226),  Pitch 1.27mm, Flat Index, 3 In-Line, Axial Leads, Body Dia. 5.3mm, Leads Dia. 0.5mm (max)); pin to pad 1>2 2>3 3>1
simulation model 2N3904 (NPN)
signal-integrity model 2N3904
footprint TO-92AA-P152 (TO-92 (TO-226),  Pitch 1.524mm, Flat Index, 3 In-Line, Axial Leads, Body Dia. 5.3mm, Leads Dia. 0.5mm (max)); pin to pad 1>2 2>3 3>1
footprint TO-92AA-P254 (TO-92 (TO226), Pitch 2.54mm, Flat Index, 3 In-Line, Bent Leads, Body Dia. 5.3mm); pin to pad 1>2 2>3 3>1
footprint SOT23_L (SOT23, 3-Leads, Body 2.9x1.3mm, Pitch 0.95mm, Lead Span 2.3mm, IPC High Density); pin to pad 2>3 3>2
footprint SOT23_M (SOT23, 3-Leads, Body 2.9x1.3mm, Pitch 0.95mm, Lead Span 2.3mm, IPC Low Density); pin to pad 2>3 3>2
footprint SOT23_N (SOT23, 3-Leads, Body 2.9x1.3mm, Pitch 0.95mm, Lead Span 2.3mm, IPC Medium Density); pin to pad 2>3 3>2
pins: 1 B, 2 C, 3 E

## NPN  BC546, BC547, BC548, BC549, BC550 (100mA)
designator Q?, comment Device: BC547  (hidden comment: Транзистор NPN  BC547 (30..65V, 100mA)  TO-92)
NPN General Purpose Amplifier (Vceo=30..65V, Ic=0.1A, Vebo=5..6V, 300MHz) - аналог КТ315; ComponentLink2Description: Datasheet; ComponentLink1Description: Сайт производителя; ComponentLink2URL: https://www.fairchildsemi.com/datasheets/bc/bc550.pdf; Family: Транзистор NPN; Package: TO-92; Current: 100mA; Voltage: 30..65V; ComponentLink3Description: Где купить?
footprint TO-92AA-P127 (TO-92 (TO-226),  Pitch 1.27mm, Flat Index, 3 In-Line, Axial Leads, Body Dia. 5.3mm, Leads Dia. 0.5mm (max)); pin to pad 1>2 2>1
footprint TO-92AA-P254 (TO-92 (TO226), Pitch 2.54mm, Flat Index, 3 In-Line, Bent Leads, Body Dia. 5.3mm); pin to pad 1>2 2>1
footprint TO-92AA-P152 (TO-92 (TO-226),  Pitch 1.524mm, Flat Index, 3 In-Line, Axial Leads, Body Dia. 5.3mm, Leads Dia. 0.5mm (max)); pin to pad 1>2 2>1
simulation model NPN (Default NPN BJT)
pins: 1 B, 2 C, 3 E

## NPN  BC817, BC337 (500mA)
designator Q?, comment Device: BC817  (hidden comment: Транзистор NPN  BC817 (45V, 500mA)  SOT54)
NPN General Purpose Amplifier (Vceo=45V, Ic=0.5A, Vebo=5V, 100MHz); ComponentLink2Description: Datasheet; ComponentLink1Description: Сайт производителя; Family: Транзистор NPN; Package: SOT54; Current: 500mA; Voltage: 45V; ComponentLink3Description: Где купить?
footprint TO-92AA-P127 (TO-92 (TO-226),  Pitch 1.27mm, Flat Index, 3 In-Line, Axial Leads, Body Dia. 5.3mm, Leads Dia. 0.5mm (max)); pin to pad 1>2 2>1
footprint TO-92AA-P254 (TO-92 (TO226), Pitch 2.54mm, Flat Index, 3 In-Line, Bent Leads, Body Dia. 5.3mm); pin to pad 1>2 2>1
footprint SOT23_L (SOT23, 3-Leads, Body 2.9x1.3mm, Pitch 0.95mm, Lead Span 2.3mm, IPC High Density); pin to pad 2>3 3>2
footprint SOT23_N (SOT23, 3-Leads, Body 2.9x1.3mm, Pitch 0.95mm, Lead Span 2.3mm, IPC Medium Density); pin to pad 2>3 3>2
footprint TO-92AA-P152 (TO-92 (TO-226),  Pitch 1.524mm, Flat Index, 3 In-Line, Axial Leads, Body Dia. 5.3mm, Leads Dia. 0.5mm (max)); pin to pad 1>2 2>1
simulation model NPN (Default NPN BJT)
footprint SOT23_M (SOT23, 3-Leads, Body 2.9x1.3mm, Pitch 0.95mm, Lead Span 2.3mm, IPC Low Density); pin to pad 2>3 3>2
pins: 1 B, 2 C, 3 E

## NPN  BC846, BC847 (100mA)
designator Q?, comment Device: BC846  (hidden comment: Транзистор NPN  BC846 (65V, 100mA)  SOT-23)
NPN General Purpose Amplifier (0.1A, 65V, 100MHz); ComponentLink2Description: Datasheet; ComponentLink1Description: Сайт производителя; ComponentLink2URL: http://www.nxp.com/documents/data_sheet/BC846_SER.pdf; Family: Транзистор NPN; Package: SOT-23; Current: 100mA; Voltage: 65V; ComponentLink3Description: Где купить?
simulation model NPN (Default NPN BJT)
footprint SOT23_M (SOT23, 3-Leads, Body 2.9x1.3mm, Pitch 0.95mm, Lead Span 2.3mm, IPC Low Density); pin to pad 2>3 3>2
footprint SOT23_L (SOT23, 3-Leads, Body 2.9x1.3mm, Pitch 0.95mm, Lead Span 2.3mm, IPC High Density); pin to pad 2>3 3>2
footprint SOT23_N (SOT23, 3-Leads, Body 2.9x1.3mm, Pitch 0.95mm, Lead Span 2.3mm, IPC Medium Density); pin to pad 2>3 3>2
pins: 1 B, 2 C, 3 E

## PNP
designator Q?, comment Device: PNP  (hidden comment: Транзистор PNP  PNP (, ))
NPN General Purpose Amplifier; ComponentLink2Description: Datasheet; ComponentLink1Description: Сайт производителя; Family: Транзистор PNP; ComponentLink3Description: Где купить?
footprint TO-92AA-P152 (TO-92 (TO-226),  Pitch 1.524mm, Flat Index, 3 In-Line, Axial Leads, Body Dia. 5.3mm, Leads Dia. 0.5mm (max)); pin to pad 1>2 2>1
footprint TO-92AA-P127 (TO-92 (TO-226),  Pitch 1.27mm, Flat Index, 3 In-Line, Axial Leads, Body Dia. 5.3mm, Leads Dia. 0.5mm (max)); pin to pad 1>2 2>1
footprint TO-92AA-P254 (TO-92 (TO226), Pitch 2.54mm, Flat Index, 3 In-Line, Bent Leads, Body Dia. 5.3mm); pin to pad 1>2 2>1
simulation model PNP (Default PNP BJT)
footprint SOT23_L (SOT23, 3-Leads, Body 2.9x1.3mm, Pitch 0.95mm, Lead Span 2.3mm, IPC High Density); pin to pad 2>3 3>2
footprint SOT23_M (SOT23, 3-Leads, Body 2.9x1.3mm, Pitch 0.95mm, Lead Span 2.3mm, IPC Low Density); pin to pad 2>3 3>2
footprint SOT23_N (SOT23, 3-Leads, Body 2.9x1.3mm, Pitch 0.95mm, Lead Span 2.3mm, IPC Medium Density); pin to pad 2>3 3>2
pins: 1 B, 2 C, 3 E

## PNP  BC556, BC557, BC558, BC559, BC560 (100mA)
designator Q?, comment Device: BC557  (hidden comment: Транзистор PNP  BC557 (30..65V, 100mA)  TO-92)
NPN General Purpose Amplifier (Vceo=30..65V, Ic=0.1A, Vebo=5V, 150MHz) - аналог КТ361; ComponentLink2Description: Datasheet; ComponentLink1Description: Сайт производителя; ComponentLink2URL: https://www.fairchildsemi.com/datasheets/bc/bc557.pdf; Family: Транзистор PNP; Package: TO-92; Current: 100mA; Voltage: 30..65V; ComponentLink3Description: Где купить?
footprint TO-92AA-P152 (TO-92 (TO-226),  Pitch 1.524mm, Flat Index, 3 In-Line, Axial Leads, Body Dia. 5.3mm, Leads Dia. 0.5mm (max)); pin to pad 1>2 2>1
footprint TO-92AA-P127 (TO-92 (TO-226),  Pitch 1.27mm, Flat Index, 3 In-Line, Axial Leads, Body Dia. 5.3mm, Leads Dia. 0.5mm (max)); pin to pad 1>2 2>1
footprint TO-92AA-P254 (TO-92 (TO226), Pitch 2.54mm, Flat Index, 3 In-Line, Bent Leads, Body Dia. 5.3mm); pin to pad 1>2 2>1
simulation model PNP (Default PNP BJT)
pins: 1 B, 2 C, 3 E

## PNP  BC807, BC327 (500mA)
designator Q?, comment Device: BC807  (hidden comment: Транзистор PNP  BC807 (45V, 500mA)  SOT54)
NPN General Purpose Amplifier (Vceo=45V, Ic=0.5A, Vebo=5V, 80MHz); ComponentLink2Description: Datasheet; ComponentLink1Description: Сайт производителя; Family: Транзистор PNP; Package: SOT54; Current: 500mA; Voltage: 45V; ComponentLink3Description: Где купить?
footprint TO-92AA-P152 (TO-92 (TO-226),  Pitch 1.524mm, Flat Index, 3 In-Line, Axial Leads, Body Dia. 5.3mm, Leads Dia. 0.5mm (max)); pin to pad 1>2 2>1
footprint TO-92AA-P127 (TO-92 (TO-226),  Pitch 1.27mm, Flat Index, 3 In-Line, Axial Leads, Body Dia. 5.3mm, Leads Dia. 0.5mm (max)); pin to pad 1>2 2>1
footprint TO-92AA-P254 (TO-92 (TO226), Pitch 2.54mm, Flat Index, 3 In-Line, Bent Leads, Body Dia. 5.3mm); pin to pad 1>2 2>1
simulation model PNP (Default PNP BJT)
footprint SOT23_L (SOT23, 3-Leads, Body 2.9x1.3mm, Pitch 0.95mm, Lead Span 2.3mm, IPC High Density); pin to pad 2>3 3>2
footprint SOT23_M (SOT23, 3-Leads, Body 2.9x1.3mm, Pitch 0.95mm, Lead Span 2.3mm, IPC Low Density); pin to pad 2>3 3>2
footprint SOT23_N (SOT23, 3-Leads, Body 2.9x1.3mm, Pitch 0.95mm, Lead Span 2.3mm, IPC Medium Density); pin to pad 2>3 3>2
pins: 1 B, 2 C, 3 E

## PNP  BC856, BC857, BC858, BC859, BC860 (100mA)
designator Q?, comment Device: BC856  (hidden comment: Транзистор PNP  BC856 (65V, 100mA)  SOT-23)
NPN General Purpose Amplifier (0.1A, 65V, 150MHz); ComponentLink2Description: Datasheet; ComponentLink1Description: Сайт производителя; ComponentLink2URL: http://www.nxp.com/documents/data_sheet/BC856_BC857_BC858.pdf; Family: Транзистор PNP; Package: SOT-23; Current: 100mA; Voltage: 65V; ComponentLink3Description: Где купить?
simulation model PNP (Default PNP BJT)
footprint SOT23_L (SOT23, 3-Leads, Body 2.9x1.3mm, Pitch 0.95mm, Lead Span 2.3mm, IPC High Density); pin to pad 2>3 3>2
footprint SOT23_M (SOT23, 3-Leads, Body 2.9x1.3mm, Pitch 0.95mm, Lead Span 2.3mm, IPC Low Density); pin to pad 2>3 3>2
footprint SOT23_N (SOT23, 3-Leads, Body 2.9x1.3mm, Pitch 0.95mm, Lead Span 2.3mm, IPC Medium Density); pin to pad 2>3 3>2
pins: 1 B, 2 C, 3 E

## Relay-DPDT
designator K?, comment Device: RELAY  (hidden comment: Реле электромагнитное RELAY)
Dual-Pole Dual-Throw Relay; Package: DIP-P8; ComponentLink2Description: Datasheet; ComponentLink2URL: http://www.tianbo-relay.com/bigimg/2.pdf; ComponentLink1Description: Сайт производителя; ComponentLink1URL: http://www.fek.by/doc/components/T_Z/Tianbo/hjr1-2c.pdf; Family: Реле электромагнитное; ComponentLink3Description: Где купить?
footprint RELAY HJR1-2C (Реле тип HJR1-2C. Две пары на замыкание, две пары на размыкание)
simulation model DPDTRELAY (Spice Subcircuit)
simulation model DPDTRELAY (Model Description)
pins: 1, 4, 6, 8, 9, 11, 13, 16

## Relay-SPDT
designator K?, comment Device: HJR-3FF  (hidden comment: Реле электромагнитное HJR-3FF)
Single-Pole Dual-Throw Relay; Package: MODULE5B; Family: Реле электромагнитное; ComponentLink2Description: Datasheet; ComponentLink1Description: Сайт производителя; ComponentLink3Description: Где купить?
simulation model SPDTRELAY (Spice Subcircuit)
footprint RELAY HJR-3FF (Реле тип HJR-3FF)
footprint RELAY MODULE4 (DIP; 4 Round Pins; Row Space 27.94 mm; Pitch 15.24 mm)
footprint RELAY MODULE5B (DIP; 5 Round Pins; Row Space 15.24 mm; Pitch 2.54 mm)
footprint RELAY MODULE6 (DIP; 6 Round Pins; Row Space 20.32 mm; Pitch 2.54 mm)
pins: 1, 2, 3, 4, 5

## Res 0.5W, SMD R1210
designator R?, comment value 470 Ом  (hidden comment: Резистор (0.5 Вт)  470 Ом ±5%)
Резистор углеродистый (CFR); Power: 0.5 Вт; Family: Резистор; Package: Аксиальный; ComponentLink2Description: Datasheet; ComponentLink1Description: Сайт производителя; Tolerance: ±5%; ComponentLink3Description: Где купить?
simulation model RES (Default semiconductor resistor)
footprint RES1270-900x360 (Resistor, Axial, Pad spacing 12.7mm - Body Lengh 9mm X Body Diameter 3.6mm)
footprint RES SMD 1210 (RESC3225X70N) 0.5W (Chip Resistor, EIA 1210, Metric 3225, Body 3.2x2.5mm, IPC Medium Density)
pins: 1, 2

## Res 0.25W, SMD R1206
designator R?, comment value 470 Ом  (hidden comment: Резистор SMD 1206 (0.25 Вт)  470 Ом ±1%)
Резистор SMD 1206 (0.25 Вт); Power: 0.25 Вт; Family: Резистор SMD 1206; Package: R1206; ComponentLink2Description: Datasheet; ComponentLink1Description: Сайт производителя; Tolerance: ±1%; ComponentLink3Description: Где купить?
footprint Res SMD 1206 - wa (Chip Resistor; Body 3.1 x 1.6 mm (LxW typ))
footprint Res SMD 1206 (Chip Resistor; Body 3.1 x 1.6 mm (LxW typ))
simulation model RES (Default semiconductor resistor)
footprint RES1016-630X250 (Resistor, Axial, Pad spacing 10.16 mm - Body Lengh 6.3mm X Body Diameter 2.5mm)
footprint RES762-360X210 (Resistor, Axial, Pad spacing 7.62mm - Body Lengh 3.6mm X Body Diameter 2.1mm)
pins: 1, 2

## Res 0.125W, SMD R0805
designator R?, comment value 390 Ом  (hidden comment: Резистор SMD 0805 (0.125 Вт)  390 Ом ±1%)
Резистор SMD 0805 (0.125 Вт); Family: Резистор SMD 0805; Power: 0.125 Вт; Package: R0805; Tolerance: ±1%; ComponentLink2Description: Datasheet; ComponentLink1Description: Сайт производителя; ComponentLink3Description: Где купить?
footprint Res SMD 0805 (Chip Resistor; Body 2.0 x 1.3 mm (LxW typ))
footprint Res SMD 0805 - wa (Chip Resistor; Body 2.0 x 1.3 mm (LxW typ))
simulation model RES (Default semiconductor resistor)
pins: 1, 2

## Res 1W, SMD R2512
designator R?, comment value 470 Ом  (hidden comment: Резистор (1 Вт)  470 Ом ±5%)
Резистор углеродистый (CF); Power: 1 Вт; Family: Резистор; Package: Аксиальный; ComponentLink2Description: Datasheet; ComponentLink1Description: Сайт производителя; Tolerance: ±5%; ComponentLink3Description: Где купить?
simulation model RES (Default semiconductor resistor)
footprint RES1524-1100x430 (Resistor, Axial, Pad spacing 15.24 mm - Body Lengh 11mm X Body Diameter 4.3mm)
footprint RESADV508-1447X546 (Resistor, Axial, Vertical Mount, Pad spacing 5.08mm - Body Lengh 14.22mm X Body Diameter 5.46mm)
footprint RES SMD 2512 (RESC6331X80N) 1W (Chip Resistor, EIA 2512, Metric 6331, 2-Leads, Body 6.3x3.1mm, IPC Medium Density)
pins: 1, 2

## Res 2W
designator R?, comment value 470 Ом  (hidden comment: Резистор (2 Вт)  470 Ом ±5%)
Резистор углеродистый (CF); Power: 2 Вт; Family: Резистор; Package: Аксиальный; ComponentLink2Description: Datasheet; ComponentLink1Description: Сайт производителя; Tolerance: ±5%; ComponentLink3Description: Где купить?
simulation model RES (Default semiconductor resistor)
footprint RES2032-1600x550 (Resistor, Axial, Pad spacing 20.32mm - Body Lengh 16mm X Body Diameter 5.5mm)
footprint RES2200-1826X764 (Resistor, Axial, Pad spacing 22mm - Body Lengh 18.26mm X Body Diameter 7.64mm)
footprint RESADV508-1670X520 (Resistor, Axial, Vertical Mount, Lead spacing 5.08 mm - Body Lengh 16.7mm X Body Diameter 5.2mm)
pins: 1, 2

## Res 5W
designator R?, comment value 470 Ом  Power: 5 Вт  (hidden comment: Резистор мощный (5 Вт)  470 Ом ±5%)
Резистор цементный (SQP, PRW); Family: Резистор мощный; Package: Ceramic bathtub; ComponentLink2Description: Datasheet; ComponentLink1Description: Сайт производителя; Tolerance: ±5%; ComponentLink3Description: Где купить?
simulation model RES (Default semiconductor resistor)
footprint Res Ceramic 5W 2mm (Резистор цементный)
footprint Res Ceramic 5W 5mm (Резистор цементный)
pins: 1, 2

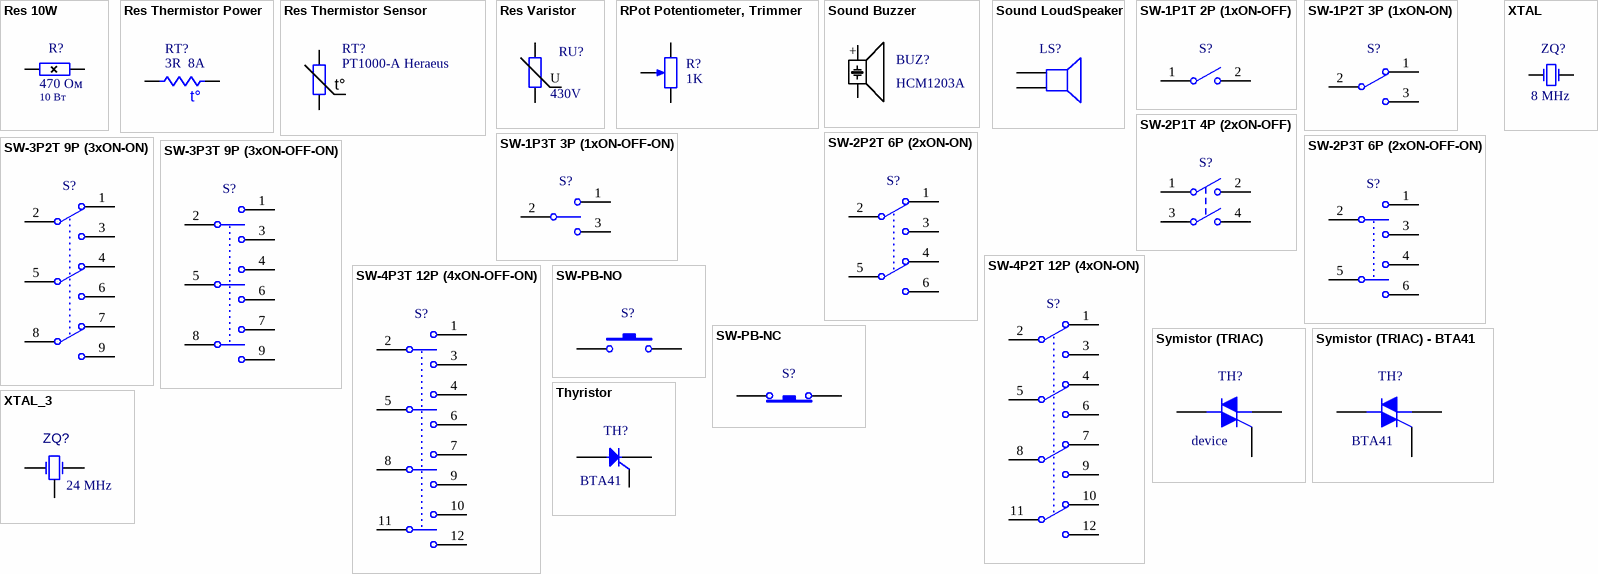
[diagram p1: symbols Res 10W to XTAL_3]

## Res 10W
designator R?, comment value 470 Ом  Power: 10 Вт  (hidden comment: Резистор мощный (10 Вт)  470 Ом ±5%)
Резистор цементный (SQP, PRW); Family: Резистор мощный; Package: Ceramic bathtub; ComponentLink2Description: Datasheet; ComponentLink1Description: Сайт производителя; Tolerance: ±5%; ComponentLink3Description: Где купить?
simulation model RES (Default semiconductor resistor)
footprint Res Ceramic 10W 2mm (Резистор цементный)
footprint Res Ceramic 10W 5mm (Резистор цементный)
pins: 1, 2

## Res Thermistor Power
designator RT?, comment value 3R  8A  (hidden comment: Термистор силовой NTC MF72-3D20  (D=20мм) (3R  8A))
Thermistor NTC (подавление пускового тока) / PTC (формирователи импульса); Tolerance: ±10%; ComponentLink2Description: Datasheet; ComponentLink2URL: http://www.cantherm.com/media/productPDF/MF72_NOV_2012.pdf; ComponentLink1Description: Сайт производителя; ComponentLink1URL: http://www.cantherm.com/; Family: Термистор силовой NTC; Package: MF72-3D20  (D=20мм); ComponentLink3Description: Где купить?
footprint THERM_EPCOS_B57153S0 (NTC thermistors, Body  D 8.5mm x W 6mm x H 13mmxxx)
footprint THERM_VISHAY_2381 640 5XXXX (RM_VISHAY_2381 640 5xxxx, Body 3.4x3mm)
footprint Varistor FNR D=20mm (Варистор Series FNR D=20mm, d=1mm, W=10(+-1mm), Tmax= 5.5 mm)
pins: 1, 2
text: t°

## Res Thermistor Sensor
designator RT?, comment Device: PT1000-A Heraeus  (hidden comment: Датчик температуры резистивный  PT1000-A Heraeus  (1000R при 0°C, Класс точности А)  Металлическая гильза ф6х30,5мм. Длина выводов 250мм.)
Датчик температуры резистивный. Платиновый тонкопленочный терморезистор.; Value: Диапазон температур: от -50 .. до +600°C; Name: Температура радиатора мотора...; ComponentLink2Description: Datasheet; ComponentLink2URL: http://voron.ua/files/pdf/datchiki/temperature/heraeus.pdf; ComponentLink1Description: Сайт производителя; Family: Датчик температуры резистивный; Package: Металлическая гильза ф6х30,5мм. Длина выводов 250мм.; ComponentLink3Description: Где купить?; ComponentLink3URL: http://voron.ua/catalog/015715; Tolerance: Класс точности А; Resistance: 1000R при 0°C
footprint Res SMD 1206 - wa (Chip Resistor; Body 3.1 x 1.6 mm (LxW typ))
footprint Res SMD 1206 (Chip Resistor; Body 3.1 x 1.6 mm (LxW typ))
footprint Res SMD 0805 (Chip Resistor; Body 2.0 x 1.3 mm (LxW typ))
footprint Res SMD 0805 - wa (Chip Resistor; Body 2.0 x 1.3 mm (LxW typ))
footprint 2SIN
pins: 1, 2
1 alternate drawing of the same symbol
text: t°

## Res Varistor
designator RU?, comment value 430V  (hidden comment: Варистор FNR-20K431  (D=20мм) (430V))
Varistor (Voltage-Sensitive Resistor); Voltage: Максимальное рабочее = 275 VAC / 350VDC. Напряжение отсечки = 387V .. 473V.; Power: 1 Вт; ComponentLink2Description: Datasheet; ComponentLink1Description: Сайт производителя; Family: Варистор; Package: FNR-20K431  (D=20мм); ComponentLink3Description: Где купить?
footprint Varistor FNR D=20mm (Варистор Series FNR D=20mm, d=1mm, W=10(+-1mm), Tmax= 5.5 mm)
footprint Varistor EPCOS D=5.7mm x 7mm (EPCOS S05K460 Metal Oxyde Varistor, Body 7x5.7mm)
footprint Varistor EPCOS D=12mm x 6.3mm (EPCOS S10K460 Metal Oxyde Varistor, Body 6.3X12mm)
footprint Varistor EPCOS D=14mm (EPCOS B72214S0251K101 Metal Oxyde Varistor, 14mm Body Diameter)
footprint Varistor EPCOS D=21.5mm x 7.1mm (EPCOS B72220S0511K101 Metal Oxyde Varistor, Body 7.1X21.5mm)
pins: 1, 2
text: U

## RPot Potentiometer, Trimmer
designator R?, comment value 1K  (hidden comment: Потенциометр 3296W  1K  ±0.05%)
Подстроечный резистор, Потенциометр; Power: 0.5 Вт; Voltage: 300 VAC; Package: 3296W; ComponentLink2Description: Datasheet; ComponentLink2URL: http://www.bourns.com/PDFs/3296.pdf; ComponentLink1Description: Сайт производителя; ComponentLink1URL: http://www.bourns.com/; Family: Потенциометр; Tolerance: ±0.05%; ComponentLink3Description: Где купить?
simulation model POT (Potentiometer)
footprint Res Vatronics 3296W (Винт сверху)
footprint Res Vatronics 3296X (Винт сбоку)
footprint Res Vatronics 3296Y (Винт сверху)
footprint Res Vatronics 3296Z (Винт сбоку)
footprint Res POT4MM-2 (Square Trimming Potentiometer); pin to pad 1>CCW 2>W 3>CW
footprint SW-3.8mm-3P (Контактные площадки под монтажные провода (1mm hole))
footprint HU,WH-3 - WA (Connector; Header; 3 Position)
pins: 1 CCW, 2 WIPER, 3 CW
1 alternate drawing of the same symbol

## Sound Buzzer
designator BUZ?, comment Device: HCM1203A  (hidden comment: Звукоизлучатель HCM1203A (3..5V 30mA))
Zymmer with Electro-Magnetic Sound Generators; Package: D=12, h=9, d=0.6; ComponentLink2Description: Datasheet; ComponentLink2URL: http://chip-nn.ru/doc/all/2417/2417.zip; ComponentLink1Description: Сайт производителя; Family: Звукоизлучатель; Voltage: 3..5V; Current: 30mA; ComponentLink3Description: Где купить?
footprint Buzzer HCM1203A ("Пищалка" с генератором: D=12, h=9, d=0.6)
pins: 1 +, 2 -

## Sound LoudSpeaker
designator LS?, comment Динамик * 45x20мм (4 Ом, 3 Вт)  (value not drawn)
Громкоговоритель, Динамик; Resistance: 4 Ом; Power: 3 Вт; Package: 45x20мм; ComponentLink2Description: Datasheet; ComponentLink1Description: Сайт производителя; Family: Динамик; ComponentLink3Description: Где купить?; Device: *
footprint HU,WH-2 - WA (Connector; Header; 2 Position)
footprint HDR1X2 - wide area (Connector; Header; 2 Position)
footprint HDR1X2H - wide area (Connector; Header; 2 Position; Right Angle)
footprint SW-3.8mm-2P (Контактные площадки под монтажные провода (1mm hole))
pins: 1, 2

## SW-1P1T 2P (1xON-OFF)
designator S?, comment Переключатель KN3B-101  (value not drawn)
Одна группа контактов, два стабильных положения, один полюс (2 вывода); Device: KN3B-101; ComponentLink2Description: Datasheet; ComponentLink1Description: Сайт производителя; Family: Переключатель; ComponentLink3Description: Где купить?; ComponentLink3URL: http://voron.ua/catalog/012588
footprint SW-3.8mm-2P (Контактные площадки под монтажные провода (1mm hole))
footprint SW-6.3mm-2P (2.8mm FASTON Tab For PC Board (1.4mm hole))
pins: 1 COMMON, 2 NO

## SW-1P2T 3P (1xON-ON)
designator S?, comment Переключатель KN3B-102  (value not drawn)
Одна группа контактов, два стабильных положения, два полюса (3 вывода); Device: KN3B-102; ComponentLink1Description: Сайт производителя; ComponentLink2Description: Datasheet; Family: Переключатель; ComponentLink3Description: Где купить?; ComponentLink3URL: http://voron.ua/catalog/012589
footprint SW-6.3mm-3P (2.8mm FASTON Tab For PC Board (1.4mm hole))
footprint SW-3.8mm-3P (Контактные площадки под монтажные провода (1mm hole))
pins: 1, 2, 3

## SW-1P3T 3P (1xON-OFF-ON)
designator S?, comment Переключатель KN3B-103  (value not drawn)
Одна группа контактов, три стабильных положения, два полюса (3 вывода); Device: KN3B-103; ComponentLink2Description: Datasheet; ComponentLink1Description: Сайт производителя; Family: Переключатель; ComponentLink3Description: Где купить?; ComponentLink3URL: http://voron.ua/catalog/017503
footprint SW-3.8mm-3P (Контактные площадки под монтажные провода (1mm hole))
footprint SW-6.3mm-3P (2.8mm FASTON Tab For PC Board (1.4mm hole))
pins: 1, 2, 3

## SW-2P1T 4P (2xON-OFF)
designator S?, comment Переключатель  (value not drawn)
Две группы контактов, два стабильных положения, один полюс (4 вывода); ComponentLink2Description: Datasheet; ComponentLink1Description: Сайт производителя; Family: Переключатель; ComponentLink3Description: Где купить?
footprint SW-3.8mm-4P (Контактные площадки под монтажные провода (1mm hole))
footprint SW-6.3mm-4P (2.8mm FASTON Tab For PC Board (1.4mm hole))
pins: 1 COMMON1, 2 NO1, 3 COMMON2, 4 NO2

## SW-2P2T 6P (2xON-ON)
designator S?, comment Переключатель  (value not drawn)
Две группы контактов, два стабильных положения, два полюса (6 выводов); ComponentLink1Description: Сайт производителя; ComponentLink2Description: Datasheet; Family: Переключатель; ComponentLink3Description: Где купить?
footprint SW-3.8mm-6P (Контактные площадки под монтажные провода (1mm hole))
footprint SW-6.3mm-6P (2.8mm FASTON Tab For PC Board (1.4mm hole))
pins: 1, 2, 3, 4, 5, 6

## SW-2P3T 6P (2xON-OFF-ON)
designator S?, comment Переключатель  (value not drawn)
Две группы контактов, три стабильных положения, два полюса (6 выводов); ComponentLink2Description: Datasheet; ComponentLink1Description: Сайт производителя; Family: Переключатель; ComponentLink3Description: Где купить?
footprint SW-3.8mm-6P (Контактные площадки под монтажные провода (1mm hole))
footprint SW-6.3mm-6P (2.8mm FASTON Tab For PC Board (1.4mm hole))
pins: 1, 2, 3, 4, 5, 6

## SW-3P2T 9P (3xON-ON)
designator S?, comment Тумблер  (value not drawn)
Три группы контактов, два стабильных положения, два полюса (9 выводов); ComponentLink1Description: Сайт производителя; ComponentLink2Description: Datasheet; Family: Тумблер; ComponentLink3Description: Где купить?
footprint SW-3.8mm-9P (Контактные площадки под монтажные провода (1mm hole))
footprint SW-6.3mm-9P (2.8mm FASTON Tab For PC Board (1.4mm hole))
pins: 1, 2, 3, 4, 5, 6, 7, 8, 9

## SW-3P3T 9P (3xON-OFF-ON)
designator S?, comment Тумблер  (value not drawn)
Три группы контактов, три стабильных положения, два полюса (9 выводов); ComponentLink2Description: Datasheet; ComponentLink1Description: Сайт производителя; Family: Тумблер; ComponentLink3Description: Где купить?
footprint SW-3.8mm-9P (Контактные площадки под монтажные провода (1mm hole))
footprint SW-6.3mm-9P (2.8mm FASTON Tab For PC Board (1.4mm hole))
pins: 1, 2, 3, 4, 5, 6, 7, 8, 9